# Altium schematic symbol library PMEG1020EH.SchLib: 2 symbols
Pins are listed as number, name and electrical type; pins without a type are passive.

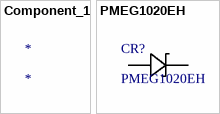
[diagram p0: symbols Component_1 to PMEG1020EH]

## Component_1
designator *

## PMEG1020EH
designator CR?
No Description Available; Mfr_Name: NXP; Type: DEV; Copyright: Copyright (C) 2022 Ultra Librarian. All rights reserved.; Manufacturer_Part_Number: PMEG1020EH; Digi-Key_Part_Number_1: 568-4105-2-ND; Digi-Key_Part_Number_2: 568-4105-1-ND; Digi-Key_Part_Number_3: 568-4105-6-ND; RefDes: RefDes
footprint SOD123F_NXP
pins: 1, 2